# Altium footprint library MyLibrary.PcbLib: 365 footprints (part 8 of 23)
Each footprint in its own frame and in the unit in brackets; x right, y up, seen from the top. Pads: shape width x height; smd on the part's side, far side on the other; paste and mask are expansions set on the pad; w line width, h text height; cw(c..) or ccw(c..) is an arc to the next point about the centre after c.
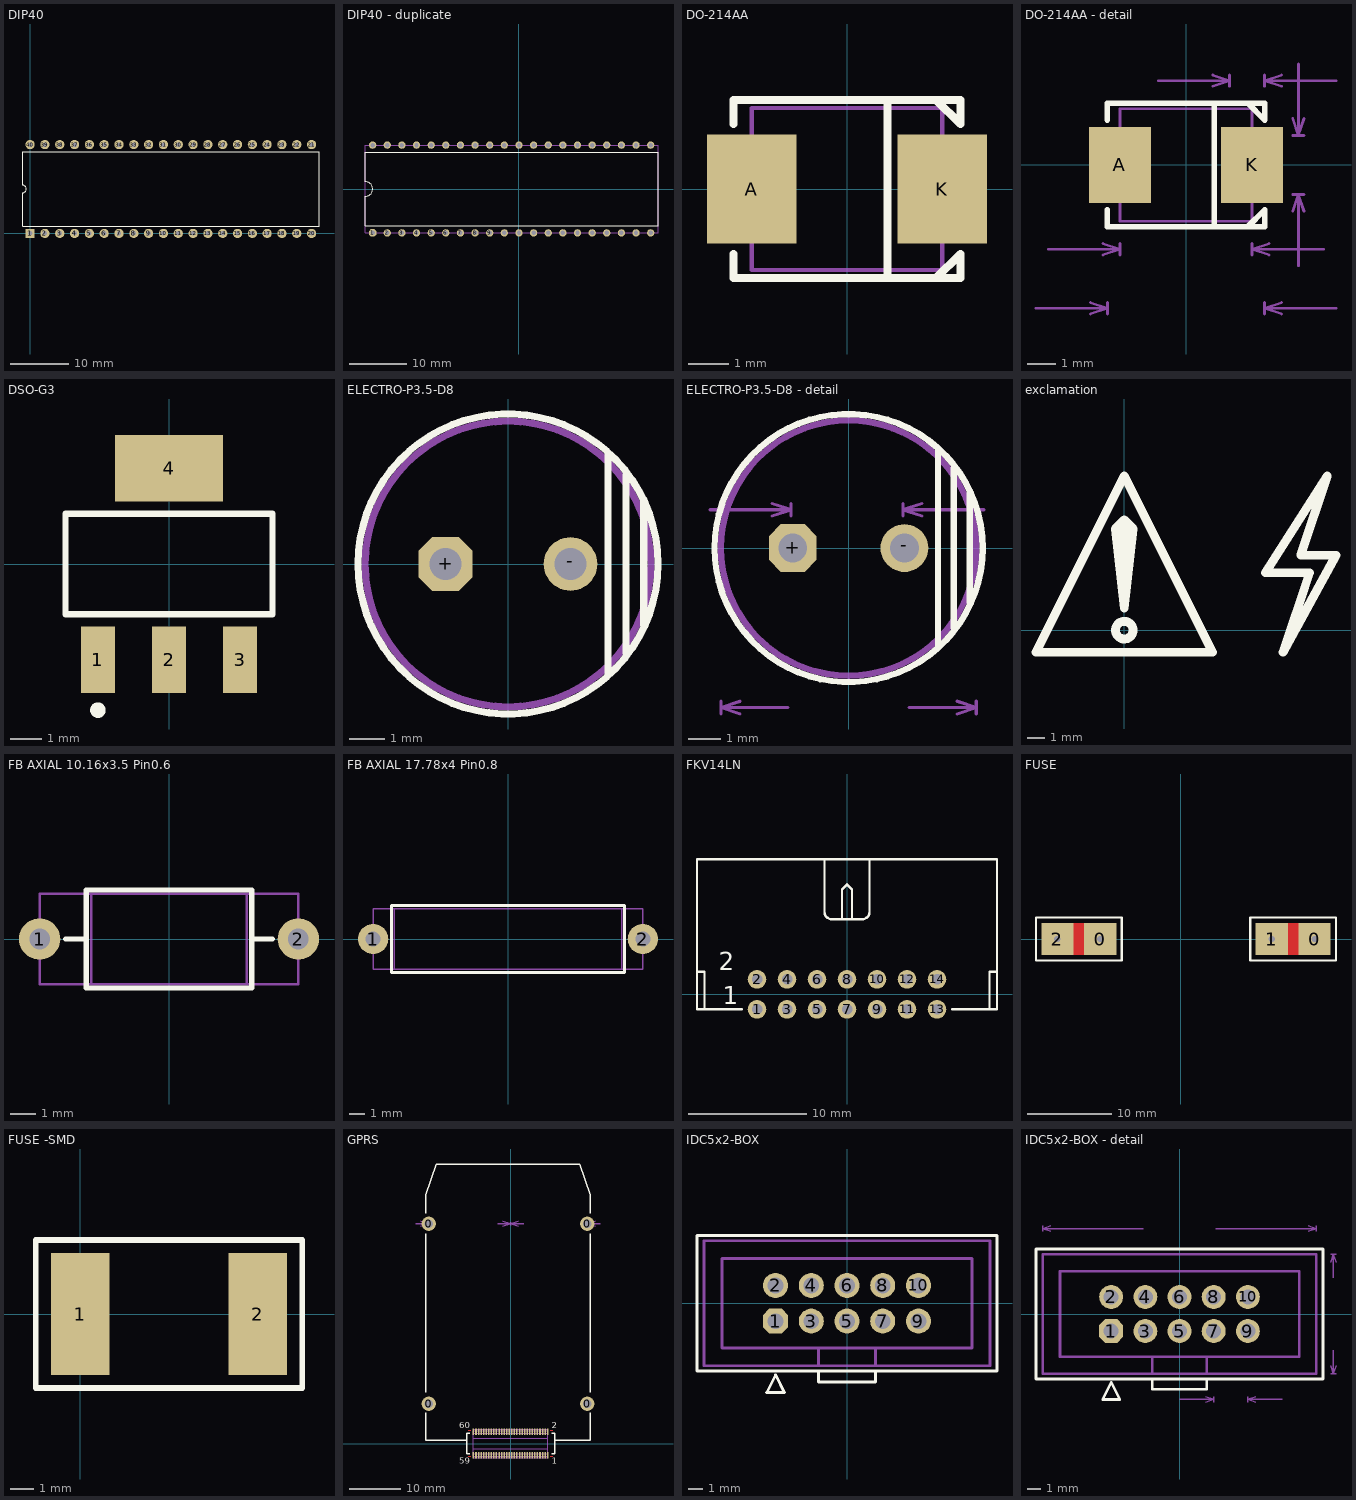
[diagram p7: the footprints below, top view; thin cyan lines are the x and y axes]

## DIP40 [mil]
pads (40):
  rect 62x62 hole 30: 1(0,0)
  round 62 hole 30: 2(100,0) 3(200,0) 4(300,0) 5(400,0) 6(500,0) 7(600,0) 8(700,0) 9(800,0) 10(900,0) 11(1000,0) 12(1100,0) 13(1200,0) 14(1300,0) 15(1400,0) 16(1500,0) 17(1600,0) 18(1700,0) 19(1800,0) 20(1900,0) 21(1900,600) 22(1800,600) 23(1700,600) 24(1600,600) 25(1500,600) 26(1400,600) 27(1300,600) 28(1200,600) 29(1100,600) 30(1000,600) 31(900,600) 32(800,600) 33(700,600) 34(600,600) 35(500,600) 36(400,600) 37(300,600) 38(200,600) 39(100,600) 40(0,600)
Top Overlay:
  lines w8: -50,50 -50,275 ccw(c-50,300) -50,325 -50,550 1950,550 1950,50 -50,50

## DIP40 - duplicate [mil]
pads (40):
  oct 50x50 hole 30: 1(-1000,-300)
  round 50 hole 30: 2(-900,-300) 3(-800,-300) 4(-700,-300) 5(-600,-300) 6(-500,-300) 7(-400,-300) 8(-300,-300) 9(-200,-300) 10(-100,-300) 11(0,-300) 12(100,-300) 13(200,-300) 14(300,-300) 15(400,-300) 16(500,-300) 17(600,-300) 18(700,-300) 19(800,-300) 20(900,-300) 21(900,300) 22(800,300) 23(700,300) 24(600,300) 25(500,300) 26(400,300) 27(300,300) 28(200,300) 29(100,300) 30(0,300) 31(-100,300) 32(-200,300) 33(-300,300) 34(-400,300) 35(-500,300) 36(-600,300) 37(-700,300) 38(-800,300) 39(-900,300) 40(-1000,300)
Top Overlay:
  lines w8: -1050,-250 950,-250 950,250 -1050,250 -1050,50 cw(c-1050,0) -1050,-50 -1050,-250
Mechanical 1:
  lines w4: -1050,-300 -1050,300 950,300 950,-300 -1050,-300

## DO-214AA [mm]
pads (2):
  rect 2.2x2.7 smd: A(-2.35,0) K(2.35,0)
Top Overlay:
  lines w0.2: -2.8,-1.6 -2.8,-2.2 2.8,-2.2 2.8,-1.6 2.2,-2.2 ; -2.8,1.6 -2.8,2.2 2.8,2.2 2.8,1.6 2.2,2.2 ; 1,-2.2 1,2.2
Mechanical 1:
  lines w0.1: -2.8,-1.05 -1.55,-1.05 -1.55,1.05 -2.8,1.05 -2.8,-1.05 ; -2.35,-2 -2.35,2 2.35,2 2.35,-2 -2.35,-2 ; 1.55,-1.05 2.8,-1.05 2.8,1.05 1.55,1.05 1.55,-1.05

## DO-214AA - detail [mm]
pads (2):
  rect 2.2x2.7 smd: A(-2.35,0) K(2.35,0)
Top Overlay:
  lines w0.2: -2.8,-1.6 -2.8,-2.2 2.8,-2.2 2.8,-1.6 2.2,-2.2 ; -2.8,1.6 -2.8,2.2 2.8,2.2 2.8,1.6 2.2,2.2 ; 1,-2.2 1,2.2
Mechanical 1:
  lines w0.1: -5.34,-5.1 -2.8,-5.1 ; -4.89,-3 -2.35,-3 ; -3.4,-5.3 -2.8,-5.1 ; -3.4,-4.9 -2.8,-5.1 ; -2.95,-3.2 -2.35,-3 ; -2.95,-2.8 -2.35,-3 ; -2.8,-5.3 -2.8,-4.9 ; -2.35,-3.2 -2.35,-2.8 ; -0.99,3 1.55,3 ; 0.95,2.8 1.55,3 ; 0.95,3.2 1.55,3 ; 1.55,2.8 1.55,3.2 ; 2.35,-3.2 2.35,-2.8 ; 2.8,-5.3 2.8,-4.9 ; 2.8,2.8 2.8,3.2 ; 2.95,-3.2 2.35,-3 ; 2.95,-2.8 2.35,-3 ; 3.4,-5.3 2.8,-5.1 ; 3.4,-4.9 2.8,-5.1 ; 3.4,2.8 2.8,3 ; 3.4,3.2 2.8,3 ; 3.8,-1.65 4,-1.05 ; 3.8,-1.05 4.2,-1.05 ; 3.8,1.05 4.2,1.05 ; 3.8,1.65 4,1.05 ; 4,-3.59 4,-1.05 ; 4,3.59 4,1.05 ; 4.2,-1.65 4,-1.05 ; 4.2,1.65 4,1.05 ; 4.89,-3 2.35,-3 ; 5.34,-5.1 2.8,-5.1 ; 5.34,3 2.8,3 ; -2.8,-1.05 -2.8,1.05 -1.55,1.05 -1.55,-1.05 -2.8,-1.05 ; -2.35,-2 2.35,-2 2.35,2 -2.35,2 -2.35,-2 ; 1.55,-1.05 1.55,1.05 2.8,1.05 2.8,-1.05 1.55,-1.05
  text "5.6 (mm)" at -2.2,-5.4 h0.6
  text "4.7 (mm)" at -2.15,-3.35 h0.6
  text "1.25 (mm)" at -1.25,3.45 h0.6
  text "2.1 (mm)" at 5.1,-2.15 h0.6

## DSO-G3 [mm]
pads (4):
  rect 1.1x2.15 smd: 1(-2.3,-3.1) 2(0,-3.1) 3(2.3,-3.1)
  rect 3.5x2.15 smd: 4(0,3.1)
Top Overlay:
  circle w0.25: c-2.3,-4.725 r0.125
  lines w0.2: -3.35,-1.625 -3.35,1.625 3.35,1.625 3.35,-1.625 -3.35,-1.625

## ELECTRO-P3.5-D8 [mm]
pads (2):
  oct 1.5x1.5 hole 0.9: +(-1.75,0)
  round 1.5 hole 0.9: -(1.75,0)
Top Overlay:
  circle w0.2: c0,0 r4.2
  lines w0.2: 2.8,-3.1 2.8,3.1 ; 3.3,-2.5 3.3,2.5 ; 3.8,-1.7 3.8,1.8
Mechanical 1:
  circle w0.2: c0,0 r4

## ELECTRO-P3.5-D8 - detail [mm]
pads (2):
  oct 1.5x1.5 hole 0.9: +(-1.75,0)
  round 1.5 hole 0.9: -(1.75,0)
Top Overlay:
  circle w0.2: c0,0 r4.2
  lines w0.2: 2.8,-3.1 2.8,3.1 ; 3.3,-2.5 3.3,2.5 ; 3.8,-1.7 3.8,1.8
Mechanical 1:
  circle w0.2: c0,0 r4
  lines w0.1: -4.34,1.2 -1.8,1.2 ; -4,-5.2 -4,-4.8 ; -3.4,-5.2 -4,-5 ; -3.4,-4.8 -4,-5 ; -2.4,1 -1.8,1.2 ; -2.4,1.4 -1.8,1.2 ; -1.903,-5 -4,-5 ; -1.8,1 -1.8,1.4 ; 1.7,1 1.7,1.4 ; 1.903,-5 4,-5 ; 2.3,1 1.7,1.2 ; 2.3,1.4 1.7,1.2 ; 3.4,-5.2 4,-5 ; 3.4,-4.8 4,-5 ; 4,-5.2 4,-4.8 ; 4.24,1.2 1.7,1.2
  text "8 (mm)" at -1.649,-5.4 h0.6
  text "3.5 (mm)" at -2,1.6 h0.6

## exclamation [mil]
Top Overlay:
  circle w20: c0,0 r20
  lines w20: 0,50 0,250 ; 0,50 20,230 0,250 ; 0,50 -20,230 0,250 ; -200,-50 200,-50 0,350 -200,-50 ; 320,130 420,130 360,-50 480,170 400,170 460,350 320,130

## FB AXIAL 10.16x3.5 Pin0.6 [mm]
pads (2):
  round 1.6 hole 0.8: 1(-5,0) 2(5,0)
Top Overlay:
  lines w0.2: -4,0 -3.2,0 ; 3.2,0 4,0 ; -3.2,-1.9 -3.2,1.9 3.2,1.9 3.2,-1.9 -3.2,-1.9
Mechanical 1:
  lines w0.1: -3,-1.75 -3,1.75 ; 3,-1.75 3,1.75 ; -5,-1.75 5,-1.75 5,1.75 -5,1.75 -5,-1.75

## FB AXIAL 17.78x4 Pin0.8 [mm]
pads (2):
  round 2 hole 1: 1(-8.9,0) 2(8.9,0)
Top Overlay:
  lines w0.2: -7.7,-2.2 -7.7,2.2 7.7,2.2 7.7,-2.2 -7.7,-2.2
Mechanical 1:
  lines w0.1: -7.5,-2 -7.5,2 ; 7.5,-2 7.5,2 ; -8.9,-2 8.9,-2 8.9,2 -8.9,2 -8.9,-2

## FKV14LN [mil]
pads (14):
  round 62 hole 35: 1(-300,-50) 2(-300,50) 3(-200,-50) 4(-200,50) 5(-100,-50) 6(-100,50) 7(0,-50) 8(0,50) 9(100,-50) 10(100,50) 11(200,-50) 12(200,50) 13(300,-50) 14(300,50)
Top Overlay:
  lines w8: -500,75 -475,75 -475,-50 ; -350,-50 -500,-50 -500,450 500,450 500,-50 350,-50 ; -75,450 -75,275 ccw(c-50,275) -50,250 50,250 ccw(c50,275) 75,275 75,450 ; -16.67,250 -16.67,350 0,366.67 16.67,350 16.67,250 ; 475,-50 475,75 500,75
  text "2" at -428,80 h60
  text "1" at -415,-33 h60

## FUSE [mil]
pads (4):
  rect 150x150 hole 30: 0(-375,0) 0(625,0) 1(425,0) 2(-575,0)
Top Layer:
  rectangle: 475,-75 575,75
  rectangle: -525,-75 -425,75
Bottom Layer:
  rectangle: 475,-75 575,75
  rectangle: -525,-75 -425,75
Top Overlay:
  lines w10: -675,-100 -675,100 -275,100 -275,-100 -675,-100 ; 325,-100 325,100 725,100 725,-100 325,-100

## FUSE -SMD [mm]
pads (2):
  rect 2.5x5.25 smd: 1(0,0) 2(7.62,0)
Top Overlay:
  lines w0.254: -1.905,-3.175 9.525,-3.175 9.525,3.175 -1.905,3.175 -1.905,-3.175

## GPRS [mm]
pads (64):
  round 2.8 hole 1.6: 0(-15.975,7.775) 0(-15.975,42.925) 0(14.975,7.775) 0(14.975,42.925)
  rect 0.3x1.2 smd: 1(7.25,-2.3) 2(7.25,2.3) 3(6.75,-2.3) 4(6.75,2.3) 5(6.25,-2.3) 6(6.25,2.3) 7(5.75,-2.3) 8(5.75,2.3) 9(5.25,-2.3) 10(5.25,2.3) 11(4.75,-2.3) 12(4.75,2.3) 13(4.25,-2.3) 14(4.25,2.3) 15(3.75,-2.3) 16(3.75,2.3) 17(3.25,-2.3) 18(3.25,2.3) 19(2.75,-2.3) 20(2.75,2.3) 21(2.25,-2.3) 22(2.25,2.3) 23(1.75,-2.3) 24(1.75,2.3) 25(1.25,-2.3) 26(1.25,2.3) 27(0.75,-2.3) 28(0.75,2.3) 29(0.25,-2.3) 30(0.25,2.3) 31(-0.25,-2.3) 32(-0.25,2.3) 33(-0.75,-2.3) 34(-0.75,2.3) 35(-1.25,-2.3) 36(-1.25,2.3) 37(-1.75,-2.3) 38(-1.75,2.3) 39(-2.25,-2.3) 40(-2.25,2.3) 41(-2.75,-2.3) 42(-2.75,2.3) 43(-3.25,-2.3) 44(-3.25,2.3) 45(-3.75,-2.3) 46(-3.75,2.3) 47(-4.25,-2.3) 48(-4.25,2.3) 49(-4.75,-2.3) 50(-4.75,2.3) 51(-5.25,-2.3) 52(-5.25,2.3) 53(-5.75,-2.3) 54(-5.75,2.3) 55(-6.25,-2.3) 56(-6.25,2.3) 57(-6.75,-2.3) 58(-6.75,2.3) 59(-7.25,-2.3) 60(-7.25,2.3)
Top Layer:
  rectangle: 7.7,-2.6 8.3,-2.4
  rectangle: 7.7,2.4 8.3,2.6
  rectangle: -8.3,-2.6 -7.7,-2.4
  rectangle: -8.3,2.4 -7.7,2.6
Top Overlay:
  lines w0.254: -16.6,6 -16.6,0.6 -8.6,0.6 ; -16.6,10 -16.6,41 ; -16.6,45 -16.6,48.6 -14.5,54.6 13.5,54.6 15.6,48.6 15.6,45 ; -8,-2 -8.6,-2 -8.6,2 -8,2 ; 8,-2 8.6,-2 8.6,2 8,2 ; 8.6,0.6 15.6,0.6 15.6,6 ; 15.6,10 15.6,41
  text "1" at 8,-4 h1.2
  text "2" at 8,3 h1.2
  text "59" at -10,-4 h1.2
  text "60" at -10,3 h1.2
Top Solder:
  rectangle: 7.5,-2.75 8.5,-2.25
  rectangle: 7.5,2.25 8.5,2.75
  rectangle: -8.5,-2.75 -7.5,-2.25
  rectangle: -8.5,2.25 -7.5,2.75
Mechanical 1:
  lines w0.1: -7.25,-2.8 7.25,-2.8 ; -7.25,-1 7.25,-1 ; -7.25,1 7.25,1 ; -7.25,2.8 7.25,2.8
  lines w0.102: -7.25,-2 -7.25,2 ; -7.25,-2 7.25,-2 ; -7.25,-2 -7.25,-2.5 7.25,-2.5 7.25,-2 ; -7.25,2 7.25,2 ; -7.25,2 -7.25,2.5 7.25,2.5 7.25,2 ; 7.25,-2 7.25,2
  lines w0.254: -18.515,42.925 -15.975,42.925 ; -17.499,42.417 -15.975,42.925 ; -17.499,43.433 -15.975,42.925 ; -15.975,42.671 -15.975,43.179 ; -2.54,42.925 0,42.925 ; -1.524,42.417 0,42.925 ; -1.524,43.433 0,42.925 ; 1.524,42.417 0,42.925 ; 1.524,43.433 0,42.925 ; 2.54,42.925 0,42.925 ; 14.975,42.671 14.975,43.179 ; 16.499,42.417 14.975,42.925 ; 16.499,43.433 14.975,42.925 ; 17.515,42.925 14.975,42.925 ; 0,42.671 0,43.179 0,42.671
  text "14.975 (mm)" at -0.155,39.268 h1.2
  text "15.975 (mm)" at -15.63,39.268 h1.2

## IDC5x2-BOX [mil]
pads (10):
  oct 70x70 hole 44.09: 1(-200,-50)
  round 70 hole 44.09: 2(-200,50) 3(-100,-50) 4(-100,50) 5(0,-50) 6(0,50) 7(100,-50) 8(100,50) 9(200,-50) 10(200,50)
Top Overlay:
  lines w8: -80,-190 -80,-220 80,-220 80,-190 ; -420,-190 420,-190 420,190 -420,190 -420,-190 ; -225,-250 -175,-250 -200,-200 -225,-250
Mechanical 1:
  lines w8: -80,-175 -80,-125 ; 80,-175 80,-125 ; -400,-175 400,-175 400,175 -400,175 -400,-175 ; -350,-125 -350,125 350,125 350,-125 -350,-125
  text "9" at 290,-70 h40
  text "2" at -260,30 h40
  text "1" at -270,-70 h40
  text "10" at 320,30 h40

## IDC5x2-BOX - detail [mil]
pads (10):
  oct 70x70 hole 44.09: 1(-200,-50)
  round 70 hole 44.09: 2(-200,50) 3(-100,-50) 4(-100,50) 5(0,-50) 6(0,50) 7(100,-50) 8(100,50) 9(200,-50) 10(200,50)
Top Overlay:
  lines w8: -80,-190 -80,-220 80,-220 80,-190 ; -420,-190 420,-190 420,190 -420,190 -420,-190 ; -225,-250 -175,-250 -200,-200 -225,-250
Mechanical 1:
  lines w3.94: -400,242.13 -400,257.87 ; -376.38,242.13 -400,250 ; -376.38,257.87 -400,250 ; -106.43,250 -400,250 ; 0,-250 100,-250 ; 76.38,-257.87 100,-250 ; 76.38,-242.13 100,-250 ; 100,-257.87 100,-242.13 ; 106.43,250 400,250 ; 200,-257.87 200,-242.13 ; 223.62,-257.87 200,-250 ; 223.62,-242.13 200,-250 ; 300,-250 200,-250 ; 376.38,242.13 400,250 ; 376.38,257.87 400,250 ; 400,242.13 400,257.87 ; 442.13,-175 457.87,-175 ; 442.13,-151.38 450,-175 ; 442.13,151.38 450,175 ; 442.13,175 457.87,175 ; 450,-106.43 450,-175 ; 450,106.43 450,175 ; 457.87,-151.38 450,-175 ; 457.87,151.38 450,175
  lines w8: -80,-175 -80,-125 ; 80,-175 80,-125 ; -400,-175 400,-175 400,175 -400,175 -400,-175 ; -350,-125 -350,125 350,125 350,-125 -350,-125
  text "9" at 290,-70 h40
  text "2" at -260,30 h40
  text "1" at -270,-70 h40
  text "10" at 320,30 h40
  text "800 (mil)" at -96.43,234.26 h23.62
  text "350 (mil)" at 465.74,-96.43 h23.62
  text "100 (mil)" at 55.54,-312.98 h23.62